# Altium schematic symbol library ST2329.SchLib: 1 symbol
Pins are listed as number, name and electrical type; pins without a type are passive.

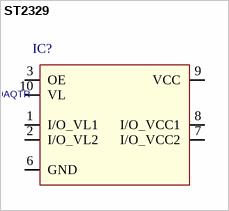
[diagram p0: symbol ST2329]

## ST2329
designator IC?, comment ST2329AQTR
ID: ST2329AQTR; BUY_LINK: http://www.digikey.com/product-detail/en/ST2329AQTR/497-8981-1-ND/2092843; PDF: http://www.st.com/web/en/resource/technical/document/datasheet/CD00204683.pdf; PRICE: 1.78000
footprint QFN10-1.8X1.4-0.4
pins: 1 I/O_VL1, 2 I/O_VL2, 3 OE, 6 GND, 7 I/O_VCC2, 8 I/O_VCC1, 9 VCC, 10 VL